# EAGLE library part TD-108-T-A (library SAMTEC-Txx_By_element14_Batch_1)
CONN RECEPTACLE, 2.54MM, THT VERT, 16WAY
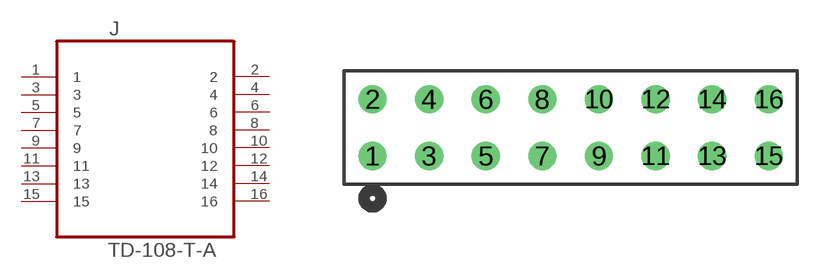
[diagram p11: symbol with the pads of SAMTEC_TD-108-T-A; footprint SAMTEC_TD-108-T-A]

Designator prefix J

## TD-108-T-A (MPN: TD-108-T-A; OC_FARNELL: 2020097; OC_NEWARK: 12P0241; PACKAGE: RECEPTACLE, 2.54MM, THT VERT,16WAY; SUPPLIER: SAMTEC)  [SAMTEC_TD-108-T-A]
1  1  pas
2  2  pas
3  3  pas
4  4  pas
5  5  pas
6  6  pas
7  7  pas
8  8  pas
9  9  pas
10  10  pas
11  11  pas
12  12  pas
13  13  pas
14  14  pas
15  15  pas
16  16  pas

## Footprint SAMTEC_TD-108-T-A (pad centres in mm)
drill 0.762: 1 -17.78,-2.54; 2 -17.78,0; 3 -15.24,-2.54; 4 -15.24,0; 5 -12.7,-2.54; 6 -12.7,0; 7 -10.16,-2.54; 8 -10.16,0; 9 -7.62,-2.54; 10 -7.62,0; 11 -5.08,-2.54; 12 -5.08,0; 13 -2.54,-2.54; 14 -2.54,0; 15 0,-2.54; 16 0,0